# Altium footprint library PC104_44B0 V3.0.PcbLib: 40 footprints (part 1 of 3)
Each footprint in its own frame and in the unit in brackets; x right, y up, seen from the top. Pads: shape width x height; smd on the part's side, far side on the other; paste and mask are expansions set on the pad; w line width, h text height; cw(c..) or ccw(c..) is an arc to the next point about the centre after c.
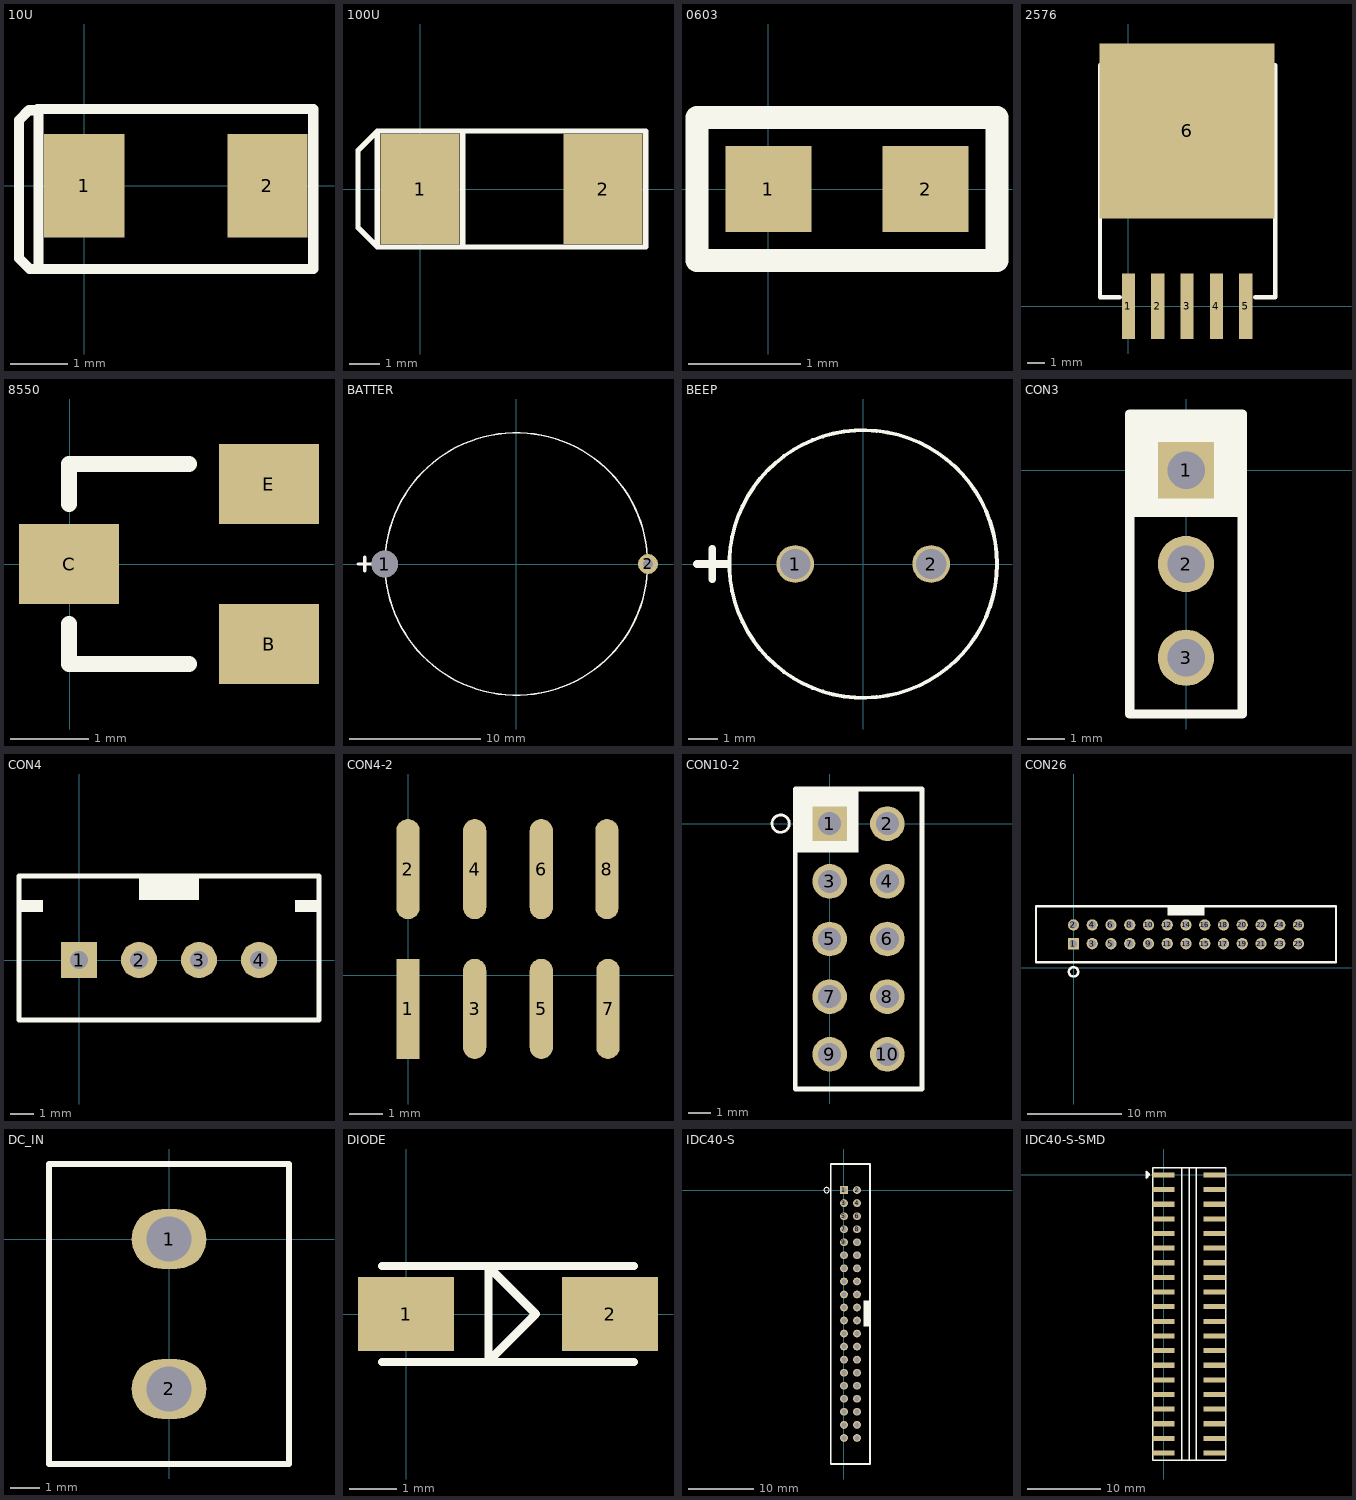
[diagram p0: the footprints below, top view; thin cyan lines are the x and y axes]

## 10U [mm]
pads (2):
  rect 1.4x1.8 smd: 1(0,0) 2(3.2,0)
TopOverlay:
  lines w0.178: -0.826,-1.454 -0.953,-1.454 -1.141,-1.266 -1.141,1.147 -0.967,1.32 -0.8,1.32 ; -0.826,-1.454 -0.8,-1.428 -0.8,-1 -0.8,1 -0.8,1.32 ; -0.826,-1.454 4,-1.454 4,-1 4,1 4,1.34 -0.82,1.34 -0.8,1.32

## 100U [mm]
pads (2):
  rect 2.6x3.6 smd: 1(0,0.009) 2(6,0.009)
TopOverlay:
  lines w0.178: 1.4,-1.891 1.4,1.909 ; -1.4,-1.891 -1.4,1.909 ; -1.4,-1.891 7.4,-1.891 7.4,1.909 -1.4,1.909 ; -1.4,-1.891 -2.032,-1.259 -2.032,1.277 -1.4,1.909

## 0603 [mil]
pads (2):
  rect 30x30 smd: 1(0,0) 2(55,0)
TopOverlay:
  lines w8: -25,-25 80,-25 80,25 -25,25 -25,-25

## 2576 [mil]
pads (6):
  rect 30x150 smd: 1(0,0) 2(67,0) 3(134,0) 4(201,0) 5(268,0)
  rect 400x400 smd: 6(134,400)
TopOverlay:
  lines w10: -20,20 -65,20 -65,550 335,550 335,20 290,20

## 8550 [mil]
pads (3):
  rect 50x40 smd: B(99.7,-40) C(-0.3,0) E(99.7,40)
TopOverlay:
  lines w8: -0.3,-30 -0.3,-50 59.7,-50 ; -0.3,30 -0.3,50 59.7,50

## BATTER [mil]
pads (2):
  round 80 hole 80: 1(-395,0)
  round 60 hole 30: 2(395,0)
TopOverlay:
  circle w5: c0,0 r393.7
  lines w10: -475,0 -435,0 ; -455,-20 -455,20

## BEEP [mil]
pads (2):
  round 50 hole 40: 1(-90.3,0) 2(89.7,0)
TopOverlay:
  circle w5: c-0.3,0 r177.17
  lines w10: -220.3,0 -180.3,0 ; -200.3,-20 -200.3,20

## CON3 [mil]
pads (3):
  rect 60x60 hole 40: 1(0,0)
  round 60 hole 40: 2(0,-100) 3(0,-200)
TopOverlay:
  rectangle: -60,-50 60,60
  lines w10: -60,-260 -60,60 60,60 60,-260 -60,-260

## CON4 [mil]
pads (4):
  rect 60x60 hole 30: 1(0,0)
  round 60 hole 30: 2(100,0) 3(200,0) 4(300,0)
TopOverlay:
  region: 200,100 200,140 100,140 100,100
  region: -60,80 -60,100 -100,100 -100,80
  region: 400,80 400,100 360,100 360,80
  lines w8: -100,-100 -100,140 400,140 400,-100 -100,-100

## CON4-2 [mm]
pads (8):
  rect 0.7x3 smd: 1(-0.008,-1.01)
  oval 0.7x3 smd: 2(-0.008,3.181) 3(1.992,-1.01) 4(1.992,3.181) 5(3.992,-1.01) 6(3.992,3.181) 7(5.992,-1.01) 8(5.961,3.181)

## CON10-2 [mil]
pads (10):
  rect 60x60 hole 40: 1(-0.3,0)
  round 60 hole 40: 2(99.7,0) 3(-0.3,-100) 4(99.7,-100) 5(-0.3,-200) 6(99.7,-200) 7(-0.3,-300) 8(99.7,-300) 9(-0.3,-400) 10(99.7,-400)
TopOverlay:
  circle w5: c-85.3,0 r15
  rectangle: -60.3,-50 49.7,60
  lines w8: -60.3,-460 -60.3,60 159.7,60 159.7,-460 -60.3,-460

## CON26 [mm]
pads (26):
  rect 1.2x1.2 hole 0.8: 1(-0.008,2.54)
  round 1.2 hole 0.8: 2(-0.008,4.54) 3(1.992,2.54) 4(1.992,4.54) 5(3.992,2.54) 6(3.992,4.54) 7(5.992,2.54) 8(5.992,4.54) 9(7.992,2.54) 10(7.992,4.54) 11(9.992,2.54) 12(9.992,4.54) 13(11.992,2.54) 14(11.992,4.54) 15(13.992,2.54) 16(13.992,4.54) 17(15.992,2.54) 18(15.992,4.54) 19(17.992,2.54) 20(17.992,4.54) 21(19.992,2.54) 22(19.992,4.54) 23(21.992,2.54) 24(21.992,4.54) 25(23.992,2.54) 26(23.992,4.54)
TopOverlay:
  circle w0.254: c-0.008,-0.46 r0.5
  region: 12,5.54 12,6.54 10,6.54 10,5.54
  region: 13.992,5.54 13.992,6.54 11.992,6.54 11.992,5.54
  lines w0.254: -4.008,0.54 -4.008,1.54 -4.008,5.54 -4.008,6.54 27.992,6.54 27.992,5.54 27.992,1.54 27.992,0.54 -4.008,0.54

## DC_IN [mil]
pads (2):
  oval 100x80 hole 60: 1(-0.3,0) 2(-0.3,-200)
TopOverlay:
  lines w8: -160.3,-300 -160.3,100 -80.3,100 79.7,100 159.7,100 159.7,-300 79.7,-300 -60.3,-300 -160.3,-300

## DIODE [mil]
pads (2):
  rect 80x62 smd: 1(0,0) 2(170,0)
TopOverlay:
  lines w7: -20,-40 190,-40 ; -20,40 190,40 ; 68.74,-39.37 108.11,0 68.74,39.37 68.74,-39.37

## IDC40-S [mm]
pads (40):
  rect 1.2x1.2 hole 0.8: 1(0,0)
  round 1.2 hole 0.8: 2(2,0) 3(0,-2) 4(2,-2) 5(0,-4) 6(2,-4) 7(0,-6) 8(2,-6) 9(0,-8) 10(2,-8) 11(0,-10) 12(2,-10) 13(0,-12) 14(2,-12) 15(0,-14) 16(2,-14) 17(0,-16) 18(2,-16) 19(0,-18) 20(2,-18) 21(0,-20) 22(2,-20) 23(0,-22) 24(2,-22) 25(0,-24) 26(2,-24) 27(0,-26) 28(2,-26) 29(0,-28) 30(2,-28) 31(0,-30) 32(2,-30) 33(0,-32) 34(2,-32) 35(0,-34) 36(2,-34) 37(0,-36) 38(2,-36) 39(0,-38) 40(2,-38)
TopOverlay:
  circle w0.127: c-2.667,0 r0.402
  rectangle: 2.997,-18.923 3.997,-16.923
  rectangle: 3,-20.923 4,-18.923
  lines w0.254: -2,-40 -2,-42 3.918,-42 ; -2,-39.935 -2,-28 -2,4 -1,4 3,4 4,4 4,-28 4,-39.983 3.983,-40 ; 4,-42 4,-40

## IDC40-S-SMD [mm]
pads (40):
  rect 3x0.7 smd: 1(0,0) 2(7,0) 3(0,-2) 4(7,-2) 5(0,-4) 6(7,-4) 7(0,-6) 8(7,-6) 9(0,-8) 10(7,-8) 11(0,-10) 12(7,-10) 13(0,-12) 14(7,-12) 15(0,-14) 16(7,-14) 17(0,-16) 18(7,-16) 19(0,-18) 20(7,-18) 21(0,-20) 22(7,-20) 23(0,-22) 24(7,-22) 25(0,-24) 26(7,-24) 27(0,-26) 28(7,-26) 29(0,-28) 30(7,-28) 31(0,-30) 32(7,-30) 33(0,-32) 34(7,-32) 35(0,-34) 36(7,-34) 37(0,-36) 38(7,-36) 39(0,-38) 40(7,-38)
TopOverlay:
  lines w0.2: -2.35,-0.125 -2.078,-0.125 -2.064,-0.139 -2.064,-0.136 -2.35,0.15 -2.075,0.15 -1.925,0 ; 2.5,-39 2.5,1 ; 3.5,-39 3.5,1 ; 4.5,-39 4.5,0.975 ; -1.925,0 -1.925,0.075 -2.35,0.5 -2.35,-0.425 -1.925,0 ; -1.5,-39 8.5,-39 8.5,1 -1.5,1 -1.5,-39